# Altium footprint library DIP1556W56P254L5232H483Q40N.PcbLib: 1 footprints
Each footprint in its own frame and in the unit in brackets; x right, y up, seen from the top. Pads: shape width x height; smd on the part's side, far side on the other; paste and mask are expansions set on the pad; w line width, h text height; cw(c..) or ccw(c..) is an arc to the next point about the centre after c.
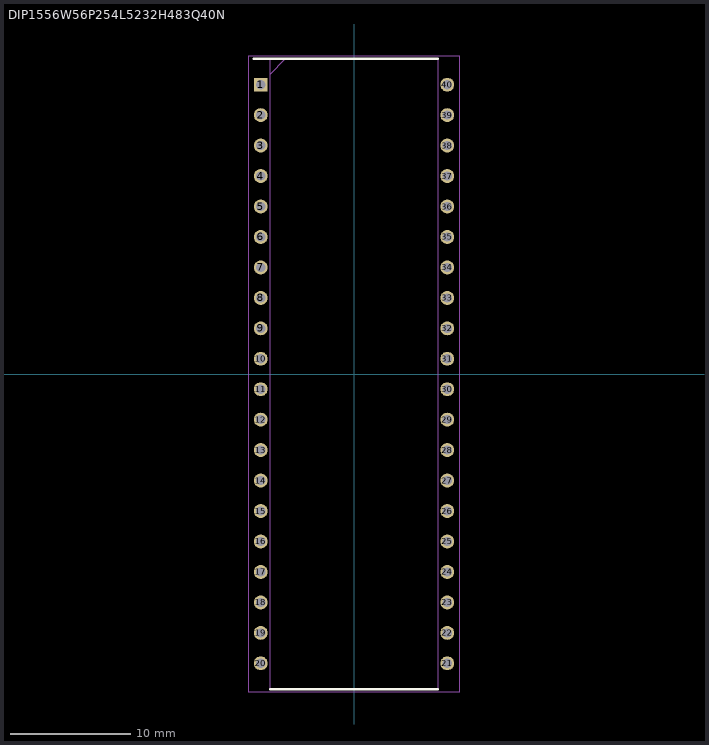
[diagram p0: the footprint, top view; thin cyan lines are the x and y axes]

## DIP1556W56P254L5232H483Q40N [mil]
pads (40):
  rect 45.63x45.63 / inner round 45.63 / far side rect 45.63x45.63 hole 29.88: 1(-306.26,950)
  round 45.63 hole 29.88: 2(-306.26,850) 3(-306.26,750) 4(-306.26,650) 5(-306.26,550) 6(-306.26,450) 7(-306.26,350) 8(-306.26,250) 9(-306.26,150) 10(-306.26,50) 11(-306.26,-50) 12(-306.26,-150) 13(-306.26,-250) 14(-306.26,-350) 15(-306.26,-450) 16(-306.26,-550) 17(-306.26,-650) 18(-306.26,-750) 19(-306.26,-850) 20(-306.26,-950) 21(306.26,-950) 22(306.26,-850) 23(306.26,-750) 24(306.26,-650) 25(306.26,-550) 26(306.26,-450) 27(306.26,-350) 28(306.26,-250) 29(306.26,-150) 30(306.26,-50) 31(306.26,50) 32(306.26,150) 33(306.26,250) 34(306.26,350) 35(306.26,450) 36(306.26,550) 37(306.26,650) 38(306.26,750) 39(306.26,850) 40(306.26,950)
Top Overlay:
  lines w7.87: -329.06,1035 275,1035 ; -275,-1035 275,-1035
Mechanical 15:
  lines w3.94: -275,985 -225,1035 ; -275,-1035 275,-1035 275,1035 -275,1035 -275,-1035
Mechanical 20:
  lines w1.97: -345.16,-1044.84 345.16,-1044.84 345.16,1044.84 -345.16,1044.84 -345.16,-1044.84